# Altium schematic symbol library CM1223-2SO.SchLib: 1 symbol
Pins are listed as number, name and electrical type; pins without a type are passive.

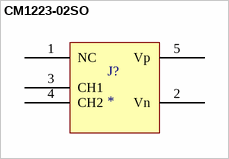
[diagram p0: symbol CM1223-02SO]

## CM1223-02SO
designator J?
CM1223-02SO TVS diode array
footprint SOT95P275X110-5N
pins: 1 NC, 2 Vn, 3 CH1, 4 CH2, 5 Vp